# Altium schematic symbol library NE555_Schematic.SchLib: 1 symbol
Pins are listed as number, name and electrical type; pins without a type are passive.

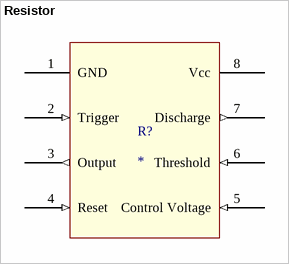
[diagram p0: symbol Resistor]

## Resistor
designator R?
footprint NE555
pins: 1 GND (power), 2 Trigger (in), 3 Output (out), 4 Reset (in), 5 Control Voltage (in), 6 Threshold (in), 7 Discharge (out), 8 Vcc (power)